# Altium footprint library SO08.PcbLib: 1 footprints
Each footprint in its own frame and in the unit in brackets; x right, y up, seen from the top. Pads: shape width x height; smd on the part's side, far side on the other; paste and mask are expansions set on the pad; w line width, h text height; cw(c..) or ccw(c..) is an arc to the next point about the centre after c.
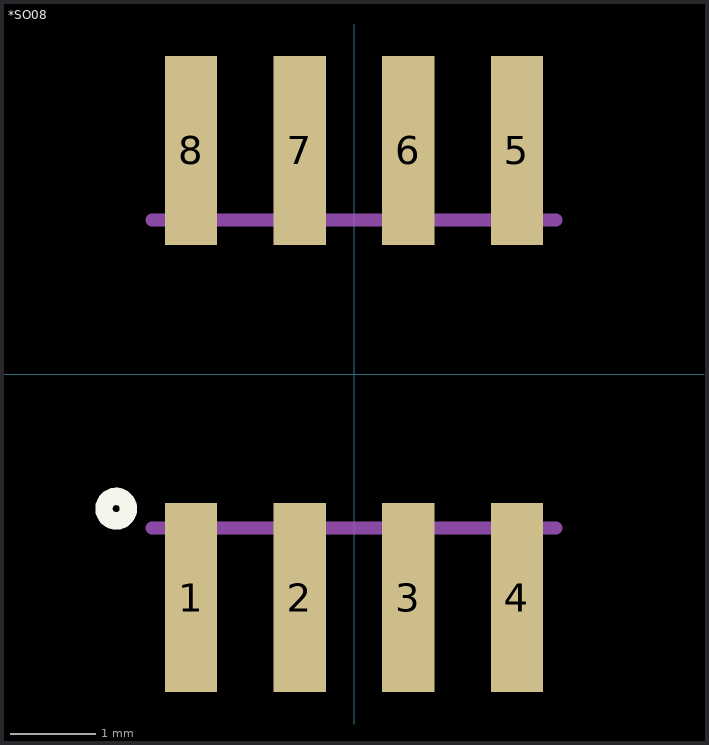
[diagram p0: the footprint, top view; thin cyan lines are the x and y axes]

## *SO08 [mil]
pads (8):
  rect 24x87 smd: 1(-75,-103) 2(-25,-103) 3(25,-103) 4(75,-103) 5(75,103) 6(25,103) 7(-25,103) 8(-75,103)
Top Overlay:
  circle w8: c-109.5,-62 r5.65
Mechanical 4:
  region: 68.04,113 82,113 82,73.05 68.04,73.05
  region: 18.02,113 32,113 32,73.1 18.02,73.1
  region: -32.02,113 -18,113 -18,73.05 -32.02,73.05
  region: -82.04,113 -68,113 -68,73.03 -82.04,73.03
  region: 68.01,-73 82,-73 82,-113.01 68.01,-113.01
  region: 18.03,-73 32,-73 32,-113.2 18.03,-113.2
  region: -32.04,-73 -18,-73 -18,-113.14 -32.04,-113.14
  region: -82.12,-73 -68,-73 -68,-113.16 -82.12,-113.16
  region: 68.04,113 82,113 82,73.05 68.04,73.05
  region: 18.02,113 32,113 32,73.1 18.02,73.1
  region: -32.02,113 -18,113 -18,73.05 -32.02,73.05
  region: -82.04,113 -68,113 -68,73.03 -82.04,73.03
  region: 68.01,-73 82,-73 82,-113.01 68.01,-113.01
  region: 18.03,-73 32,-73 32,-113.2 18.03,-113.2
  region: -32.04,-73 -18,-73 -18,-113.14 -32.04,-113.14
  region: -82.12,-73 -68,-73 -68,-113.16 -82.12,-113.16
  lines w6: -92.99,-70.98 92.99,-70.98 -92.99,-70.98 ; -92.99,70.98 92.99,70.98 -92.99,70.98